# EAGLE library part 64POL-SOCKED (library advanced-test-technologies)
QFP SOCKED 64 pol. Source: WELLS CTI 7014-064-6-08 TQFP 64 - Drawing.pdf
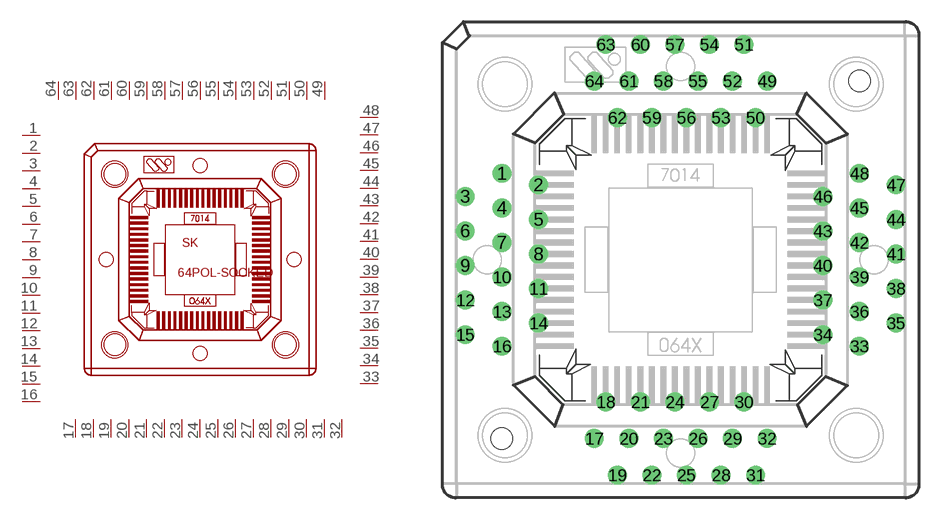
[diagram p0: symbol with the pads of QFP-SOCKED-64; footprint QFP-SOCKED-64]

Designator prefix SK

## 64POL-SOCKED  [QFP-SOCKED-64]
1  1  pas
2  2  pas
3  3  pas
4  4  pas
5  5  pas
6  6  pas
7  7  pas
8  8  pas
9  9  pas
10  10  pas
11  11  pas
12  12  pas
13  13  pas
14  14  pas
15  15  pas
16  16  pas
17  17  pas
18  18  pas
19  19  pas
20  20  pas
21  21  pas
22  22  pas
23  23  pas
24  24  pas
25  25  pas
26  26  pas
27  27  pas
28  28  pas
29  29  pas
30  30  pas
31  31  pas
32  32  pas
33  33  pas
34  34  pas
35  35  pas
36  36  pas
37  37  pas
38  38  pas
39  39  pas
40  40  pas
41  41  pas
42  42  pas
43  43  pas
44  44  pas
45  45  pas
46  46  pas
47  47  pas
48  48  pas
49  49  pas
50  50  pas
51  51  pas
52  52  pas
53  53  pas
54  54  pas
55  55  pas
56  56  pas
57  57  pas
58  58  pas
59  59  pas
60  60  pas
61  61  pas
62  62  pas
63  63  pas
64  64  pas

## Footprint QFP-SOCKED-64 (pad centres in mm)
QFP SOCKED 64 pol. Source: WELLS CTI 7014-064-6-08 TQFP 64 - Drawing.pdf
drill 0.8 pad 1.2: 1 -12.41,6; 2 -9.87,5.2; 3 -14.95,4.4; 4 -12.41,3.6; 5 -9.87,2.8; 6 -14.95,2; 7 -12.41,1.2; 8 -9.87,0.4; 9 -14.95,-0.4; 10 -12.41,-1.2; 11 -9.87,-2; 12 -14.95,-2.8; 13 -12.41,-3.6; 14 -9.87,-4.4; 15 -14.95,-5.2; 16 -12.41,-6; 17 -6,-12.41; 18 -5.2,-9.87; 19 -4.4,-14.95; 20 -3.6,-12.41; 21 -2.8,-9.87; 22 -2,-14.95; 23 -1.2,-12.41; 24 -0.4,-9.87; 25 0.4,-14.95; 26 1.2,-12.41; 27 2,-9.87; 28 2.8,-14.95; 29 3.6,-12.41; 30 4.4,-9.87; 31 5.2,-14.95; 32 6,-12.41; 33 12.41,-6; 34 9.87,-5.2; 35 14.95,-4.4; 36 12.41,-3.6; 37 9.87,-2.8; 38 14.95,-2; 39 12.41,-1.2; 40 9.87,-0.4; 41 14.95,0.4; 42 12.41,1.2; 43 9.87,2; 44 14.95,2.8; 45 12.41,3.6; 46 9.87,4.4; 47 14.95,5.2; 48 12.41,6; 49 6,12.41; 50 5.2,9.87; 51 4.4,14.95; 52 3.6,12.41; 53 2.8,9.87; 54 2,14.95; 55 1.2,12.41; 56 0.4,9.87; 57 -0.4,14.95; 58 -1.2,12.41; 59 -2,9.87; 60 -2.8,14.95; 61 -3.6,12.41; 62 -4.4,9.87; 63 -5.2,14.95; 64 -6,12.41
hole 1.5 at -12.41,-12.41
hole 1.5 at 12.41,12.41